# EAGLE library part CP2102 (library Misaka-IC)
Single-Chip USB-to-UART Bridge Supply voltage: 3...3.6V(self), 4...5.25V(USB) Data bits: 5,6,7,8 Stop bits: 1, 1.5, 2 Parity: odd, even, mark, space, no parity Baud rates: 300bps...1Mbps All handshaking and modem interface signals
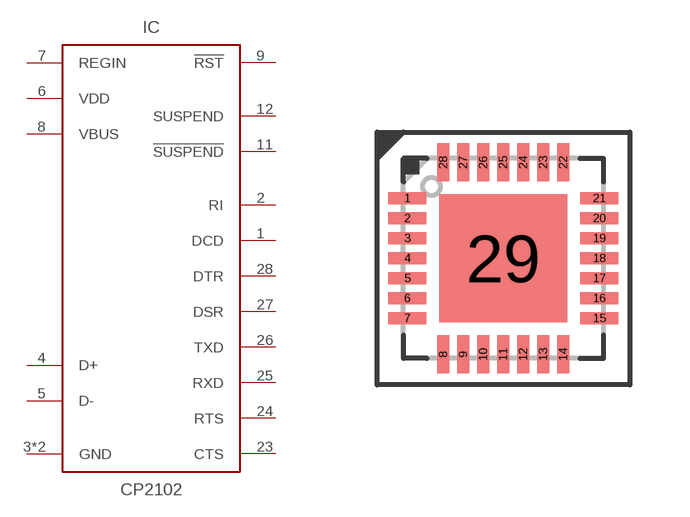
[diagram p11: symbol with the pads of QFN28(5X5); footprint QFN28(5X5)]

Designator prefix IC

## CP2102  [QFN28(5X5)]
1  DCD  in
2  RI  in
3  GND  pwr
4  D+
5  D-
6  VDD  pwr
7  REGIN  pwr
8  VBUS  pwr
9  !RST  in
11  !SUSPEND  out
12  SUSPEND  out
23  CTS  in
24  RTS  out
25  RXD  in
26  TXD  out
27  DSR  in
28  DTR  out
29  GND  pwr

## Footprint QFN28(5X5) (pad centres in mm)
smd 0.95 x 0.3: 1 -2.4,1.5; 2 -2.4,1; 3 -2.4,0.5; 4 -2.4,0; 5 -2.4,-0.5; 6 -2.4,-1; 7 -2.4,-1.5; 15 2.4,-1.5; 16 2.4,-1; 17 2.4,-0.5; 18 2.4,0; 19 2.4,0.5; 20 2.4,1; 21 2.4,1.5
smd 0.3 x 0.95: 8 -1.5,-2.4; 9 -1,-2.4; 10 -0.5,-2.4; 11 0,-2.4; 12 0.5,-2.4; 13 1,-2.4; 14 1.5,-2.4; 22 1.5,2.4; 23 1,2.4; 24 0.5,2.4; 25 0,2.4; 26 -0.5,2.4; 27 -1,2.4; 28 -1.5,2.4
smd 3.2 x 3.2: 29 0,0